# Altium footprint library EceParts.PcbLib: 92 footprints (part 1 of 6)
Each footprint in its own frame and in the unit in brackets; x right, y up, seen from the top. Pads: shape width x height; smd on the part's side, far side on the other; paste and mask are expansions set on the pad; w line width, h text height; cw(c..) or ccw(c..) is an arc to the next point about the centre after c.
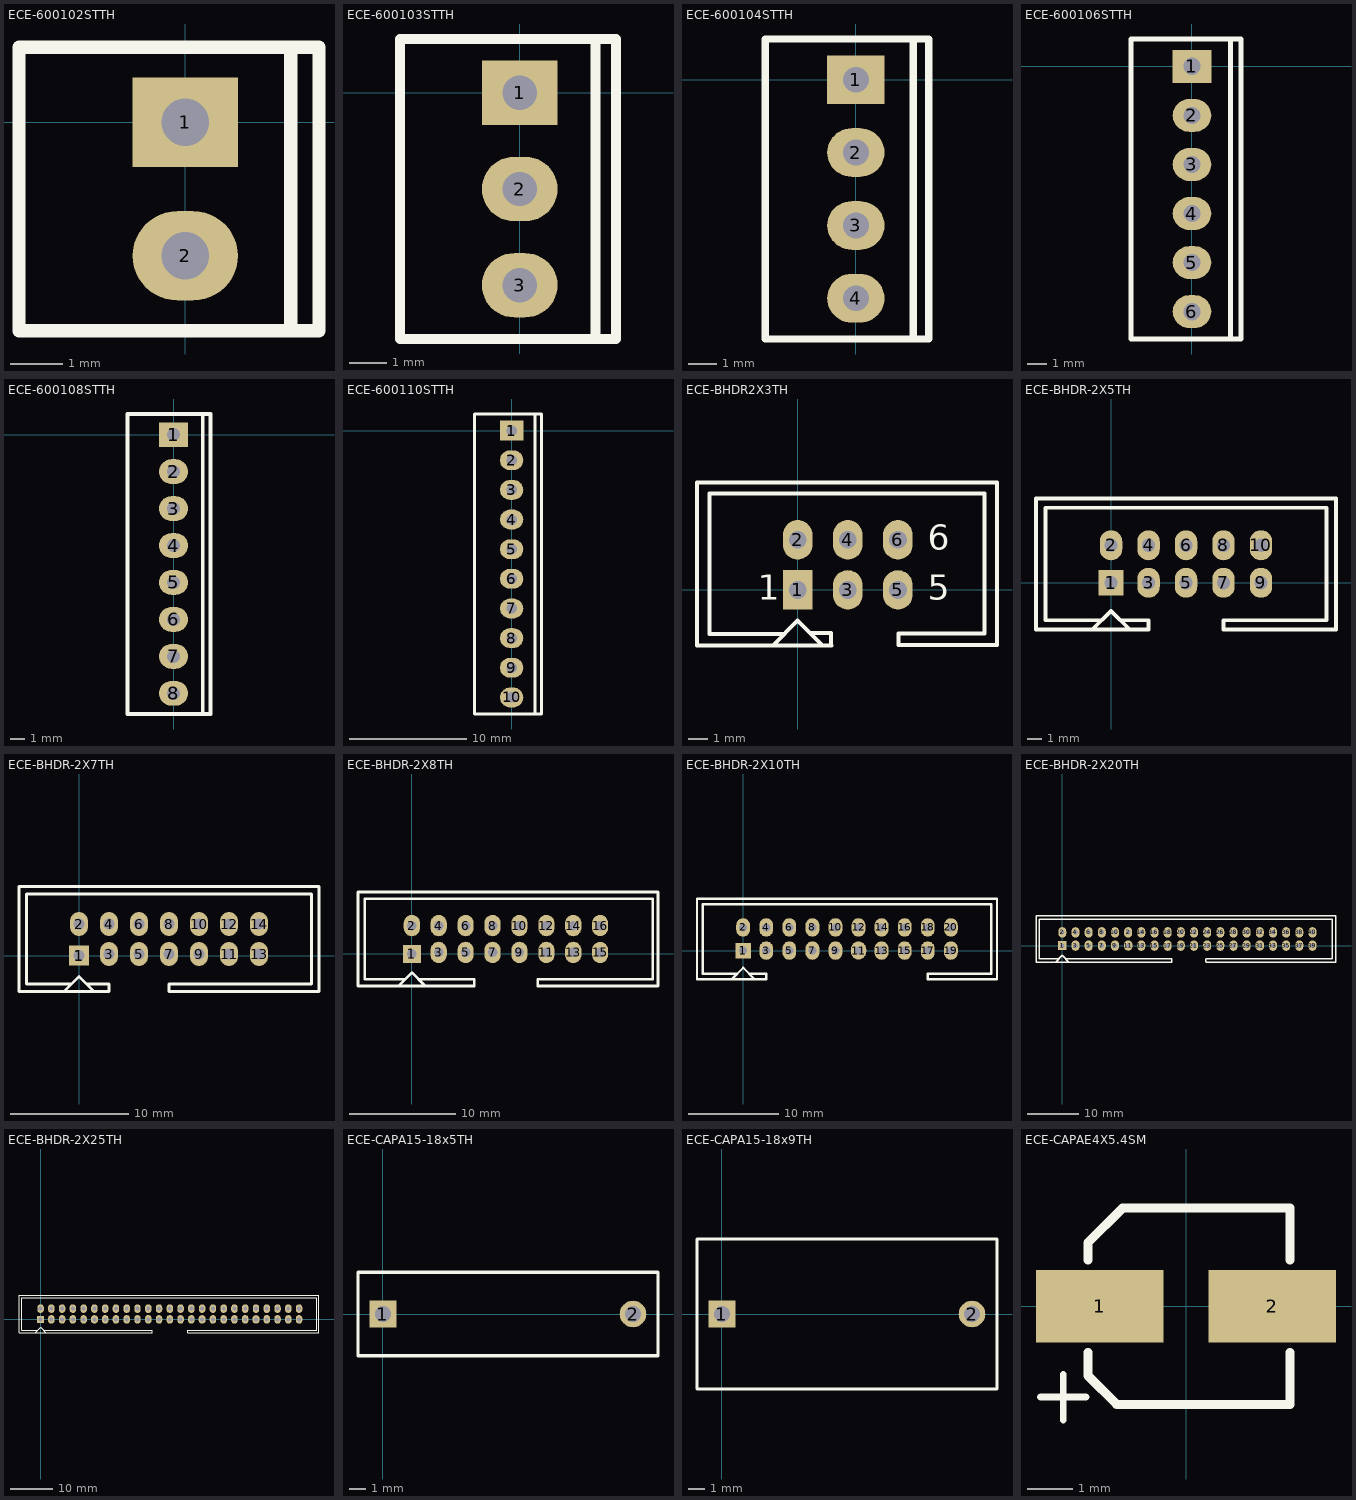
[diagram p0: the footprints below, top view; thin cyan lines are the x and y axes]

## ECE-600102STTH [mm] "Polarised Header 2 way"
height 8.5
pads (2):
  rect 2x1.7 hole 0.9: 1(0,0)
  oval 2x1.7 hole 0.9: 2(0,-2.54)
Top Overlay:
  lines w0.254: 2,-3.96 2,1.42 ; -3.16,-3.96 -3.16,1.42 2.54,1.42 2.54,-3.96 -3.16,-3.96
3D body: height 7.39, standoff -6.2, extent -3.302,-3.64 3.175,1.44

## ECE-600103STTH [mm] "Polarised Header 3 way"
height 8.5
pads (3):
  rect 2x1.7 hole 0.9: 1(0,0)
  oval 2x1.7 hole 0.9: 2(0,-2.54) 3(0,-5.08)
Top Overlay:
  lines w0.254: 2,-6.5 2,1.42 ; -3.16,-6.5 2.54,-6.5 2.54,1.42 -3.16,1.42 -3.16,-6.5

## ECE-600104STTH [mm] "Polarised Header 4 way"
height 8.5
pads (4):
  rect 2x1.7 hole 0.9: 1(0,0)
  oval 2x1.7 hole 0.9: 2(0,-2.54) 3(0,-5.08) 4(0,-7.62)
Top Overlay:
  lines w0.254: 2,-9.04 2,1.42 ; -3.16,-9.04 2.54,-9.04 2.54,1.42 -3.16,1.42 -3.16,-9.04

## ECE-600106STTH [mm] "Polarised Header 6 way"
height 8.5
pads (6):
  rect 2x1.7 hole 0.9: 1(0,0)
  oval 2x1.7 hole 0.9: 2(0,-2.54) 3(0,-5.08) 4(0,-7.62) 5(0,-10.16) 6(0,-12.7)
Top Overlay:
  lines w0.254: 2,-14.12 2,1.42 ; -3.16,-14.12 -3.16,1.42 2.54,1.42 2.54,-14.12 -3.16,-14.12

## ECE-600108STTH [mm] "Polarised Header 8 way"
height 8.5
pads (8):
  rect 2x1.7 hole 0.9: 1(0,0)
  oval 2x1.7 hole 0.9: 2(0,-2.54) 3(0,-5.08) 4(0,-7.62) 5(0,-10.16) 6(0,-12.7) 7(0,-15.24) 8(0,-17.78)
Top Overlay:
  lines w0.254: 2,-19.2 2,1.42 ; -3.16,-19.2 -3.16,1.42 2.54,1.42 2.54,-19.2 -3.16,-19.2

## ECE-600110STTH [mm] "Polarised Header 10 way"
height 8.5
pads (10):
  rect 2x1.7 hole 0.9: 1(0,0)
  oval 2x1.7 hole 0.9: 2(0,-2.54) 3(0,-5.08) 4(0,-7.62) 5(0,-10.16) 6(0,-12.7) 7(0,-15.24) 8(0,-17.78) 9(0,-20.32) 10(0,-22.86)
Top Overlay:
  lines w0.254: 2,-24.28 2,1.42 ; -3.16,-24.28 -3.16,1.42 2.54,1.42 2.54,-24.28 -3.16,-24.28

## ECE-BHDR2X3TH [mm] "IDC 3X2 Way 2.54 pitch"
height 9.3
pads (6):
  rect 1.5x2 hole 0.9: 1(0,0)
  oval 1.5x2 hole 0.9 paste+0: 2(0,2.54)
  oval 1.5x2 hole 0.9: 3(2.54,0) 4(2.54,2.54) 5(5.08,0) 6(5.08,2.54)
Top Overlay:
  lines w0.2: -5.1,-2.8 -5.1,5.45 ; -4.465,4.89 -4.465,-2.24 -0.69,-2.24 ; -4.455,4.89 9.465,4.89 9.465,-2.2 ; -1.26,-2.81 0,-1.55 1.26,-2.81 ; 0.635,-2.185 1.7,-2.185 1.7,-2.8 ; 1.72,-2.82 -5.1,-2.82 -5.1,5.45 ; 5.1,-2.3 5.1,-2.8 10.1,-2.8 ; 5.1,-2.2 9.415,-2.2 ; 10.1,-2.75 10.1,5.45 ; -5.1,5.45 10.1,5.45 ; 10.1,-2.8 10.1,5.45 ; 10.1,-2.8 10.1,5.45
  text "6" at 6.604,2.032 h1.27
  text "5" at 6.604,-0.508 h1.27
  text "1" at -2.032,-0.508 h1.27
3D body: height 9.1, standoff -3.1, extent -5.07,-3.175 10.17,6.275

## ECE-BHDR-2X5TH [mil] "IDC 10 pin 2.54 pitch"
height 354.33
pads (10):
  rect 66.93x66.93 hole 35.43: 1(0,0)
  oval 60x80 hole 35.43: 2(0,100) 3(100,0) 4(100,100) 5(200,0) 6(200,100) 7(300,0) 8(300,100) 9(400,0) 10(400,100)
Top Overlay:
  lines w10: -50,-125 0,-75 50,-125 ; -25,-100 -175,-100 -175,200 575,200 575,-100 300,-100 300,-125 600,-125 600,225 -200,225 -200,-125 100,-125 100,-100 25,-100

## ECE-BHDR-2X7TH [mil] "IDC 14 pin 2.54 pitch"
height 354.33
pads (14):
  rect 66.93x66.93 hole 35.43: 1(0,0)
  oval 60x80 hole 35.43: 2(0,105) 3(100,5) 4(100,105) 5(200,5) 6(200,105) 7(300,5) 8(300,105) 9(400,5) 10(400,105) 11(500,5) 12(500,105) 13(600,5) 14(600,105)
Top Overlay:
  lines w10: -50,-120 0,-70 50,-120 ; -25,-95 -175,-95 -175,205 575,205 775,205 775,-95 575,-95 300,-95 300,-120 600,-120 800,-120 800,230 600,230 -200,230 -200,-120 100,-120 100,-95 25,-95

## ECE-BHDR-2X8TH [mil] "IDC 16 pin 2.54 pitch"
height 354.33
pads (16):
  rect 66.93x66.93 hole 35.43: 1(0,0)
  oval 60x80 hole 35.43: 2(0,105) 3(100,5) 4(100,105) 5(200,5) 6(200,105) 7(300,5) 8(300,105) 9(400,5) 10(400,105) 11(500,5) 12(500,105) 13(600,5) 14(600,105)
  oval 60x78.74 hole 35.43: 15(700,5) 16(700,105)
Top Overlay:
  lines w10: -50,-120 0,-70 50,-120 ; -25,-95 -175,-95 -175,205 575,205 775,205 895,205 895,-95 775,-95 468.5,-95 468.5,-120 800,-120 915,-120 915,230 800,230 600,230 -200,230 -200,-120 232.28,-120 232.28,-95 25,-95

## ECE-BHDR-2X10TH [mil] "IDC 20 pin 2.54 pitch"
height 354.33
pads (20):
  rect 66.93x66.93 hole 35.43: 1(0,0)
  oval 60x80 hole 35.43: 2(0,100) 3(100,0) 4(100,100) 5(200,0) 6(200,100) 7(300,0) 8(300,100) 9(400,0) 10(400,100) 12(500,100) 13(600,0) 14(600,100) 15(700,0) 16(700,100) 17(800,0) 18(800,100) 19(900,0) 20(900,100)
  oval 66.93x78.74 hole 35.43: 11(500,0)
Top Overlay:
  lines w10: -50,-125 0,-75 50,-125 ; -25,-100 -175,-100 -175,200 1070,200 ; 25,-100 100,-100 100,-125 -200,-125 -200,225 1095,225 ; 1075,200 1075,-100 800,-100 800,-125 1100,-125 1100,225

## ECE-BHDR-2X20TH [mil] "IDC 40 pin 2.54 pitch"
height 354.33
pads (40):
  rect 66.93x66.93 hole 35.43: 1(0,0)
  oval 60x80 hole 35.43: 2(0,100) 2(500,100) 3(100,0) 4(100,100) 5(200,0) 6(200,100) 7(300,0) 8(300,100) 9(400,0) 10(400,100) 13(600,0) 14(600,100) 15(700,0) 16(700,100) 17(800,0) 18(800,100) 19(900,0) 20(900,100) 21(1000,0) 22(1000,100) 23(1100,0) 24(1100,100) 25(1200,0) 26(1200,100) 27(1300,0) 28(1300,100) 29(1400,0) 30(1400,100) 32(1500,100) 33(1600,0) 34(1600,100) 35(1700,0) 36(1700,100) 37(1800,0) 38(1800,100) 39(1900,0) 40(1900,100)
  oval 66.93x78.74 hole 35.43: 11(500,0) 31(1500,0)
Top Overlay:
  lines w10: -50,-125 0,-75 50,-125 ; -25,-100 -175,-100 -175,200 2051.18,200 2051.18,-100 1092.91,-100 ; 25,-100 830.71,-100 830.71,-125 -200,-125 -200,225 2078.74,225 2078.74,-125 1094.49,-125 ; 1090.55,-125 1090.55,-100

## ECE-BHDR-2X25TH [mil] "IDC 50 pin 2.54 pitch"
height 354.33
pads (50):
  rect 66.93x66.93 hole 35.43: 1(0,0)
  oval 60x80 hole 35.43: 2(0,100) 2(500,100) 3(100,0) 4(100,100) 5(200,0) 6(200,100) 7(300,0) 8(300,100) 9(400,0) 10(400,100) 13(600,0) 14(600,100) 15(700,0) 16(700,100) 17(800,0) 18(800,100) 19(900,0) 20(900,100) 21(1000,0) 22(1000,100) 23(1100,0) 24(1100,100) 25(1200,0) 26(1200,100) 27(1300,0) 28(1300,100) 29(1400,0) 30(1400,100) 32(1500,100) 33(1600,0) 34(1600,100) 35(1700,0) 36(1700,100) 37(1800,0) 38(1800,100) 39(1900,0) 40(1900,100) 42(2000,100) 43(2100,0) 44(2100,100) 45(2200,0) 46(2200,100) 47(2300,0) 48(2300,100) 49(2400,0) 50(2400,100)
  oval 66.93x78.74 hole 35.43: 11(500,0) 31(1500,0) 41(2000,0)
Top Overlay:
  lines w10: -50,-125 0,-75 50,-125 ; -25,-100 -175,-100 -175,200 2565,200 2565,-100 1366.14,-100 1366.14,-125 2585,-125 2585,225 -200,225 -200,-125 1035.43,-125 1035.43,-100 25,-100

## ECE-CAPA15-18x5TH [mm] "Capacitor, Axial,Body 18X5mm"
height 11
pads (2):
  rect 1.6x1.6 hole 0.95: 1(0,0)
  round 1.6 hole 0.95: 2(15,0)
Top Overlay:
  lines w0.2: -1.5,-2.5 -1.5,2.5 16.5,2.5 16.5,-2.5 -1.5,-2.5

## ECE-CAPA15-18x9TH [mm] "Capacitor, Axial,Body 18X9mm"
height 12.5
pads (2):
  rect 1.6x1.6 hole 0.95: 1(0,0)
  round 1.6 hole 0.95: 2(15,0)
Top Overlay:
  lines w0.2: -1.5,-4.5 -1.5,4.5 16.5,4.5 16.5,-4.5 -1.5,-4.5

## ECE-CAPAE4X5.4SM [mm] "Capacitor, polarized, aluminum can; 4x5.4mm DxH"
height 5.4
pads (2):
  rect 2.8x1.6 smd: 1(-1.9,0) 2(1.9,0)
Top Overlay:
  lines w0.152: -3.2,-2 -2.7,-2 -2.2,-2 ; -2.7,-2.5 -2.7,-1.5
  lines w0.2: -2.159,-1.016 -2.159,-1.524 -1.524,-2.159 2.286,-2.159 2.286,-1.016 ; -2.159,1.016 -2.159,1.397 -1.397,2.159 2.286,2.159 2.286,1.016